# EAGLE library part SPRESENSE_MIC_I/F (library FaBo-PIN)
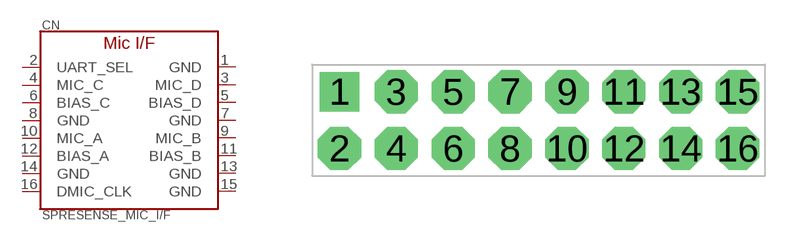
[diagram p27: symbol with the pads of PIN_2X8; footprint PIN_2X8]

Designator prefix CN

## SPRESENSE_MIC_I/F  [PIN_2X8]
1  GND
2  UART_SEL
3  MIC_D
4  MIC_C
5  BIAS_D
6  BIAS_C
7  GND
8  GND
9  MIC_B
10  MIC_A
11  BIAS_B
12  BIAS_A
13  GND
14  GND
15  GND
16  DMIC_CLK

## Footprint PIN_2X8 (pad centres in mm)
drill 1.1 pad 1.778 square: 1 0,0
drill 1.1 pad 1.93 octagon: 2 0,-2.54; 3 2.54,0; 4 2.54,-2.54; 5 5.08,0; 6 5.08,-2.54; 7 7.62,0; 8 7.62,-2.54; 9 10.16,0; 10 10.16,-2.54; 11 12.7,0; 12 12.7,-2.54; 13 15.24,0; 14 15.24,-2.54; 15 17.78,0; 16 17.78,-2.54